# Altium integrated library P2500MH.IntLib: 1 symbol
Pins are listed as number, name and electrical type; pins without a type are passive.

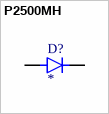
[diagram p0: symbol P2500MH]

## P2500MH
designator D?
MP: P2500MH; Package: None; Price: None; Availability: Unavailable; Value: *
footprint DIOAD1845W125L780D800
pins: A, C K